# Altium schematic symbol library Components - 23.07.26 - 22.38.SchLib: 1 symbol
Pins are listed as number, name and electrical type; pins without a type are passive.

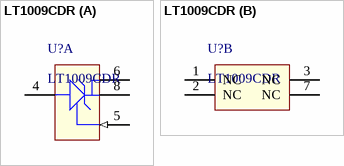
[diagram p0: symbol LT1009CDR]

## LT1009CDR
designator U?
Integrated Reference Circuit, 2.5 V, 15 ppm / degC, 10 mA, 0 to 70 degC, 8-pin SOIC (D), Green (RoHS & no Sb/Br); Manufacturer: Texas Instruments; VO(V): 2.5; Initial Accuracy @ 25/deg C(%): 0.2; SubFamily: Shunt Voltage Reference; Temp Coeff(Typ)(ppm/ degree C): 15; Min Iz for Regulation(uA): 400; Rating: Catalog; Iout/Iz(Max)(mA): 10; Temp Coeff(Max)(ppm/ degree C): 25; ComponentLink3Description: Package Specification; ComponentLink1URL: http://www.ti.com/; ComponentLink2URL: http://www.ti.com/general/docs/lit/getliterature.tsp?genericPartNumber=LT1009&fileType=pdf; DatasheetVersion: SLVS013N; PackageDescription: 8-Pin Plastic Small Outline, Body 4.9 x 3.9 mm, Pitch 1.27 mm; ComponentLink1Description: Manufacturer URL; PackageReference: D0008A; ComponentLink2Description: Datasheet; PartNumber: LT1009CDR; Mounting Technology: Surface Mount; Eco-Plan: Green (RoHS & no Sb/Br); PackageVersion: 4040047-3/M; Code_JEDEC: MS-012; ComponentLink3URL: http://www.ti.com/litv/pdf/msoi002j
footprint D0008A_N (SOIC, 8-Leads, Body 5x4mm, Pitch 1.27mm, IPC Medium Density)
footprint D0008A_L (SOIC, 8-Leads, Body 5x4mm, Pitch 1.27mm, IPC High Density)
footprint D0008A_M (SOIC, 8-Leads, Body 5x4mm, Pitch 1.27mm, IPC Low Density)
part A pins: 4 ANODE, 5 ADJ (in), 6 CATHODE, 8 CATHODE
part B pins: 1 NC, 2 NC, 3 NC, 7 NC